# Altium footprint library NR01105ANG132C.PcbLib: 1 footprints
Each footprint in its own frame and in the unit in brackets; x right, y up, seen from the top. Pads: shape width x height; smd on the part's side, far side on the other; paste and mask are expansions set on the pad; w line width, h text height; cw(c..) or ccw(c..) is an arc to the next point about the centre after c.
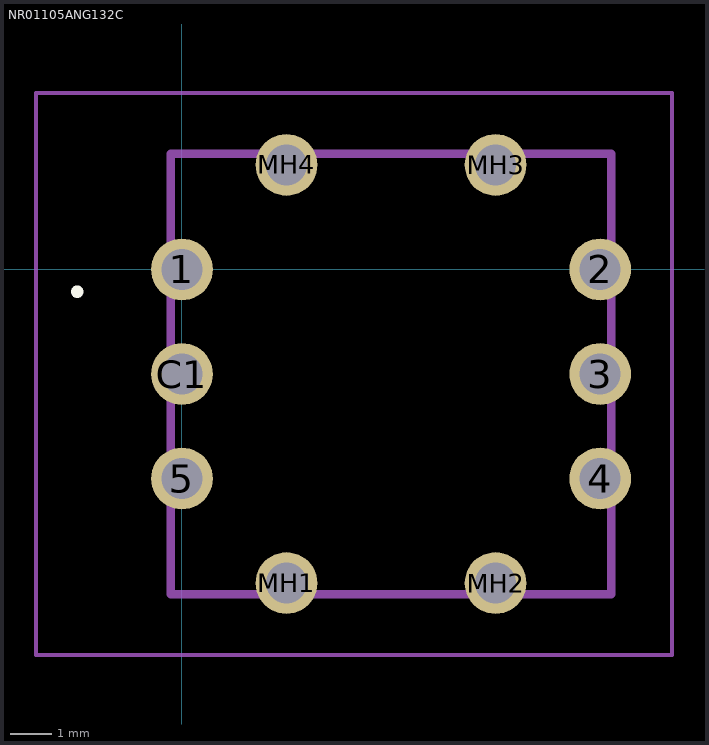
[diagram p0: the footprint, top view; thin cyan lines are the x and y axes]

## NR01105ANG132C [mm]
pads (10):
  round 1.5 hole 1: 1(0,0) 2(10.16,0) 3(10.16,-2.54) 4(10.16,-5.08) 5(0,-5.08) C1(0,-2.54) MH1(2.54,-7.62) MH2(7.62,-7.62) MH3(7.62,2.54) MH4(2.54,2.54)
Top Overlay:
  lines w0.3: -2.55,-0.54 cw(c-2.545,-0.54) -2.54,-0.54 ; -2.55,-0.54 -2.55,-0.54 ; -2.55,-0.54 ccw(c-2.545,-0.54) -2.54,-0.54 ; -2.54,-0.54 -2.54,-0.54
Mechanical 15:
  lines w0.2: -0.27,-7.89 10.43,-7.89 10.43,2.81 -0.27,2.81 -0.27,-7.89
Mechanical 20:
  lines w0.1: -3.55,-9.37 11.91,-9.37 11.91,4.29 -3.55,4.29 -3.55,-9.37
3D body "NR01105ANG13-2C.stp": height 5.8, standoff -4.65, extent -10,-3.376 10,3.376